# Altium schematic symbol library 2sc0115t.SchLib: 1 symbol
Pins are listed as number, name and electrical type; pins without a type are passive.

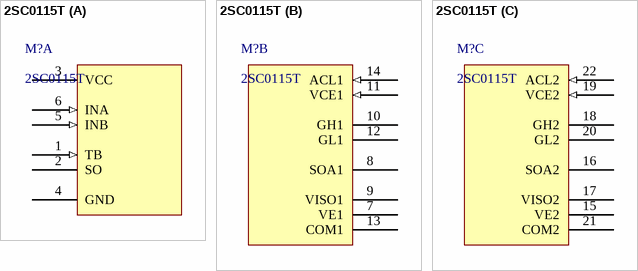
[diagram p0: symbol 2SC0115T]

## 2SC0115T
designator M?
footprint 2sc0115t
part A pins: 1 TB (in) "Set bloking time", 2 SO (oc) "Status output channels 1 and 2 combined, normally high-impedance, pulled down to low on fault", 3 VCC (power) "Supply voltage, 15V supply for promary side", 4 GND (power) "Ground", 5 INB (in) "Signal input B (Channel 2), non-inverting input relative to GND", 6 INA (in) "Signal input A (Channel 1), non-inverting input relative to GND"
part B pins: 7 VE1 (power) "Emitter channel 1, connect to (auxiliary) emitter of power switch", 8 SOA1 (oc) "Status output and external fault input channel 1, normally high-impedance", 9 VISO1 (power) "DC/DC output channel 1 (referring COM1)", 10 GH1 (oe) "Gate high channel 1, pulls gate high through turn-on resistor", 11 VCE1 (in) "Vce sense channel 1, connect to IGBT collector through resistor network", 12 GL1 (oc) "Gate low channel 1, pulls gate low through turn-off resistor", 13 COM1 (power) "Secondary-side ground channel 1", 14 ACL1 (in) "Active clamping feedback channel 1, leave open if not used"
part C pins: 15 VE2 (power) "Emitter channel 2, connect to (auxiliary) emitter of power switch", 16 SOA2 (oc) "Status output and external fault input channel 2, normally high-impedance", 17 VISO2 (power) "DC/DC output channel 2 (referring COM1)", 18 GH2 (oe) "Gate high channel 2, pulls gate high through turn-on resistor", 19 VCE2 (in) "Vce sense channel 2, connect to IGBT collector through resistor network", 20 GL2 (oc) "Gate low channel 2, pulls gate low through turn-off resistor", 21 COM2 (power) "Secondary-side ground channel 2", 22 ACL2 (in) "Active clamping feedback channel 2, leave open if not used"